# EAGLE library part L80 (library iStivi - GPS Modules)
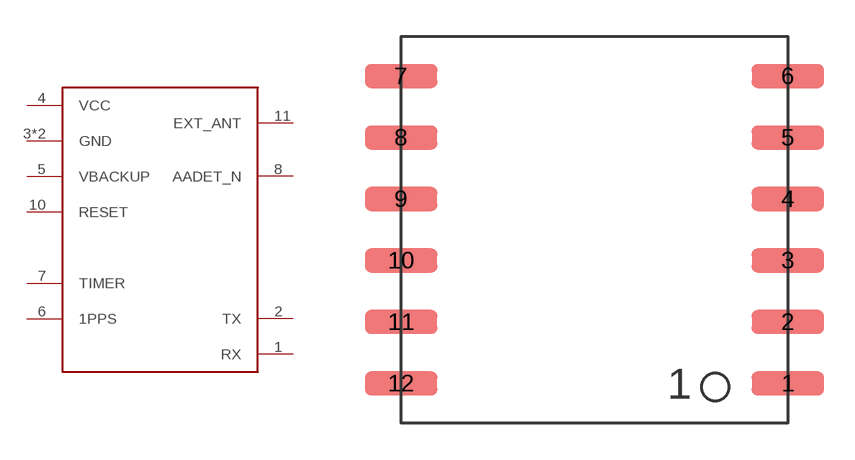
[diagram p1: symbol with the pads of L80; footprint L80]

Designator prefix -

## L80  [L80]
1  RX  in
2  TX  out
3  GND  pwr
4  VCC  pwr
5  VBACKUP
6  1PPS
7  TIMER
8  AADET_N
10  RESET  in
11  EXT_ANT
12  GND  pwr

## Footprint L80 (pad centres in mm)
L80 gps module
smd 3 x 1: 1 8,-6.35; 2 8,-3.81; 3 8,-1.27; 4 8,1.27; 5 8,3.81; 6 8,6.35; 7 -8,6.35; 8 -8,3.81; 9 -8,1.27; 10 -8,-1.27; 11 -8,-3.81; 12 -8,-6.35